# Altium schematic symbol library Regulator_Controller.SchLib: 154 symbols (part 1 of 2)
Pins are listed as number, name and electrical type; pins without a type are passive.

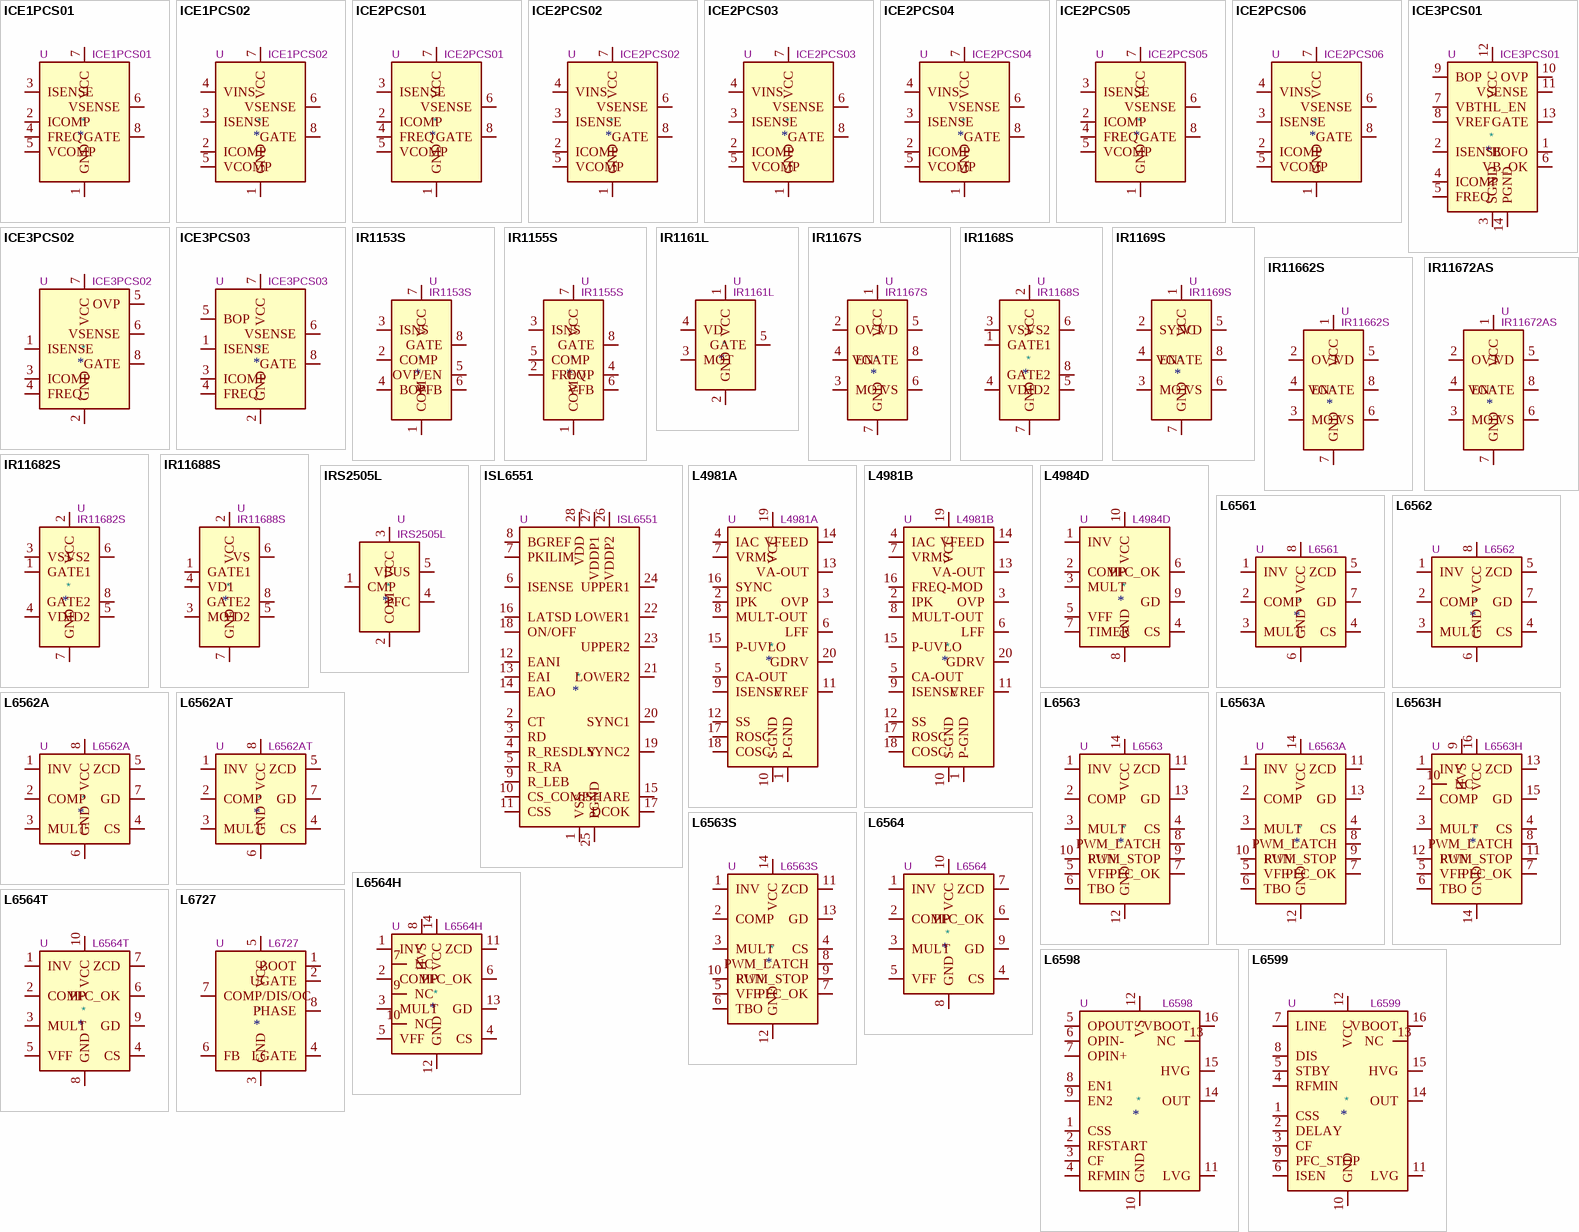
[diagram p0: symbols ICE1PCS01 to L6727]

## ICE1PCS01
designator *  value ICE1PCS01  Reference: U
Standalone PFC Controller in CCM, DIP-8/SOIC-8; ki_keywords: SMPS pfc controller; ki_fp_filters: SOIC*3.9x4.9mm*P1.27mm* DIP*W7.62mm*; Datasheet: https://www.infineon.com/dgdl/Infineon-ICE1PCS01-DS-v01_03-en.pdf?fileId=db3a304412b407950112b427c6f13cc7; Description_: Standalone PFC Controller in CCM, DIP-8/SOIC-8
pins: 1 GND, 2 ICOMP, 3 ISENSE, 4 FREQ, 5 VCOMP, 6 VSENSE, 7 VCC, 8 GATE

## ICE1PCS02
designator *  value ICE1PCS02  Reference: U
Standalone PFC Controller in CCM With Input Brown-Out Protection, 65kHz, DIP-8/SOIC-8; ki_keywords: SMPS pfc controller; ki_fp_filters: SOIC*3.9x4.9mm*P1.27mm* DIP*W7.62mm*; Datasheet: https://www.infineon.com/dgdl/Infineon-ICE1PCS02-DS-v01_02-en.pdf?fileId=db3a304412b407950112b427c9283ccb; Description_: Standalone PFC Controller in CCM With Input Brown-Out Protection, 65kHz, DIP-8/SOIC-8
pins: 1 GND, 2 ICOMP, 3 ISENSE, 4 VINS, 5 VCOMP, 6 VSENSE, 7 VCC, 8 GATE

## ICE2PCS01
designator *  value ICE2PCS01  Reference: U
Standalone PFC Controller in CCM, DIP-8/SOIC-8; ki_keywords: SMPS pfc controller; ki_fp_filters: SOIC*3.9x4.9mm*P1.27mm* DIP*W7.62mm*; Datasheet: https://www.infineon.com/dgdl/Infineon-ICE2PCS01-DS-v02_03-en.pdf?fileId=db3a304412b407950112b427caa43ccf; Description_: Standalone PFC Controller in CCM, DIP-8/SOIC-8
pins: 1 GND, 2 ICOMP, 3 ISENSE, 4 FREQ, 5 VCOMP, 6 VSENSE, 7 VCC, 8 GATE

## ICE2PCS02
designator *  value ICE2PCS02  Reference: U
Standalone PFC Controller in CCM With Input Brown-Out Protection, 65kHz, DIP-8/SOIC-8; ki_keywords: SMPS pfc controller; ki_fp_filters: SOIC*3.9x4.9mm*P1.27mm* DIP*W7.62mm*; Datasheet: https://www.infineon.com/dgdl/Infineon-ICE2PCS02-DS-v02_04-en.pdf?fileId=db3a304412b407950112b427cc3c3cdc; Description_: Standalone PFC Controller in CCM With Input Brown-Out Protection, 65kHz, DIP-8/SOIC-8
pins: 1 GND, 2 ICOMP, 3 ISENSE, 4 VINS, 5 VCOMP, 6 VSENSE, 7 VCC, 8 GATE

## ICE2PCS03
designator *  value ICE2PCS03  Reference: U
Standalone PFC Controller in CCM With Input Brown-Out Protection, 100kHz, DIP-8/SOIC-8; ki_keywords: SMPS pfc controller; ki_fp_filters: SOIC*3.9x4.9mm*P1.27mm* DIP*W7.62mm*; Datasheet: https://www.infineon.com/dgdl/Infineon-ICE2PCS03-DS-v02_01-en.pdf?fileId=db3a30431936bc4b01193b45457e52a1; Description_: Standalone PFC Controller in CCM With Input Brown-Out Protection, 100kHz, DIP-8/SOIC-8
pins: 1 GND, 2 ICOMP, 3 ISENSE, 4 VINS, 5 VCOMP, 6 VSENSE, 7 VCC, 8 GATE

## ICE2PCS04
designator *  value ICE2PCS04  Reference: U
Standalone PFC Controller in CCM With Input Brown-Out Protection, 133kHz, DIP-8/SOIC-8; ki_keywords: SMPS pfc controller; ki_fp_filters: SOIC*3.9x4.9mm*P1.27mm* DIP*W7.62mm*; Datasheet: https://www.infineon.com/dgdl/Infineon-ICE2PCS04-DS-v02_01-en.pdf?fileId=db3a30431936bc4b01193b4e467952a9; Description_: Standalone PFC Controller in CCM With Input Brown-Out Protection, 133kHz, DIP-8/SOIC-8
pins: 1 GND, 2 ICOMP, 3 ISENSE, 4 VINS, 5 VCOMP, 6 VSENSE, 7 VCC, 8 GATE

## ICE2PCS05
designator *  value ICE2PCS05  Reference: U
Standalone PFC Controller in CCM, DIP-8/SOIC-8; ki_keywords: SMPS pfc controller; ki_fp_filters: SOIC*3.9x4.9mm*P1.27mm* DIP*W7.62mm*; Datasheet: https://www.infineon.com/dgdl/Infineon-ICE2PCS05-DS-v01_02-en.pdf?fileId=db3a30431c69a49d011cdfb46a834373; Description_: Standalone PFC Controller in CCM, DIP-8/SOIC-8
pins: 1 GND, 2 ICOMP, 3 ISENSE, 4 FREQ, 5 VCOMP, 6 VSENSE, 7 VCC, 8 GATE

## ICE2PCS06
designator *  value ICE2PCS06  Reference: U
Standalone PFC Controller in CCM With Input Brown-Out Protection, 65kHz, DIP-8/SOIC-8; ki_keywords: SMPS pfc controller; ki_fp_filters: SOIC*3.9x4.9mm*P1.27mm* DIP*W7.62mm*; Datasheet: https://www.infineon.com/dgdl/Infineon-ICE2PCS06-DS-v01_01-en.pdf?fileId=db3a3043327f13e3013285ff4ecb2e77; Description_: Standalone PFC Controller in CCM With Input Brown-Out Protection, 65kHz, DIP-8/SOIC-8
pins: 1 GND, 2 ICOMP, 3 ISENSE, 4 VINS, 5 VCOMP, 6 VSENSE, 7 VCC, 8 GATE

## ICE3PCS01
designator *  value ICE3PCS01  Reference: U
Standalone PFC Controller in CCM, SOIC-14; ki_keywords: SMPS pfc controller; ki_fp_filters: SOIC*3.9x8.7mm*P1.27mm*; Footprint: Package_SO:SOIC-14_3.9x8.7mm_P1.27mm; Datasheet: https://www.infineon.com/dgdl/Infineon-ICE3PCS01-DS-v03_00-EN.pdf?fileId=db3a304329a0f6ee0129a67ae8c02b46; Description_: Standalone PFC Controller in CCM, SOIC-14
pins: 1 BOFO, 2 ISENSE, 3 SGND, 4 ICOMP, 5 FREQ, 6 VB_OK, 7 VBTHL_EN, 8 VREF, 9 BOP, 10 OVP, 11 VSENSE, 12 VCC, 13 GATE, 14 PGND

## ICE3PCS02
designator *  value ICE3PCS02  Reference: U
Standalone PFC Controller in CCM, SOIC-8; ki_keywords: SMPS pfc controller; ki_fp_filters: SOIC*3.9x4.9mm*P1.27mm*; Footprint: Package_SO:SOIC-8_3.9x4.9mm_P1.27mm; Datasheet: https://www.infineon.com/dgdl/Infineon-ICE3PCS02G-DS-v03_00-EN.pdf?fileId=db3a304329a0f6ee0129a67fab472b4b; Description_: Standalone PFC Controller in CCM, SOIC-8
pins: 1 ISENSE, 2 GND, 3 ICOMP, 4 FREQ, 5 OVP, 6 VSENSE, 7 VCC, 8 GATE

## ICE3PCS03
designator *  value ICE3PCS03  Reference: U
Standalone PFC Controller in CCM, SOIC-8; ki_keywords: SMPS pfc controller; ki_fp_filters: SOIC*3.9x4.9mm*P1.27mm*; Footprint: Package_SO:SOIC-8_3.9x4.9mm_P1.27mm; Datasheet: https://www.infineon.com/dgdl/Infineon-ICE3PCS03G-DS-v03_00-EN.pdf?fileId=db3a304329a0f6ee0129a683c9c92b50; Description_: Standalone PFC Controller in CCM, SOIC-8
pins: 1 ISENSE, 2 GND, 3 ICOMP, 4 FREQ, 5 BOP, 6 VSENSE, 7 VCC, 8 GATE

## IR1153S
designator *  value IR1153S  Reference: U
Fixed 22.2kHz Frequency, uPFC One Cycle Control IC With Brown-Out Protection, Continuous Conduction Mode, SOIC-8; ki_keywords: pfc controller ccm; ki_fp_filters: SOIC*3.9x4.9mm*P1.27mm*; Footprint: Package_SO:SOIC-8_3.9x4.9mm_P1.27mm; Datasheet: https://www.infineon.com/dgdl/ir1153.pdf?fileId=5546d462533600a4015355c42a5b1649; Description_: Fixed 22.2kHz Frequency, uPFC One Cycle Control IC With Brown-Out Protection, Continuous Conduction Mode, SOIC-8
pins: 1 COM, 2 COMP, 3 ISNS, 4 BOP, 5 OVP/EN, 6 VFB, 7 VCC, 8 GATE

## IR1155S
designator *  value IR1155S  Reference: U
Programmable Frequency, One Cycle Control PFC IC, Continuous Conduction Mode, SOIC-8; ki_keywords: pfc controller ccm; ki_fp_filters: SOIC*3.9x4.9mm*P1.27mm*; Footprint: Package_SO:SOIC-8_3.9x4.9mm_P1.27mm; Datasheet: https://www.infineon.com/dgdl/ir1155spbf.pdf?fileId=5546d462533600a4015355c431f9164b; Description_: Programmable Frequency, One Cycle Control PFC IC, Continuous Conduction Mode, SOIC-8
pins: 1 COM, 2 FREQ, 3 ISNS, 4 OVP, 5 COMP, 6 VFB, 7 VCC, 8 GATE

## IR1161L
designator *  value IR1161L  Reference: U
SmartRectifier Control IC, 500kHz, 200V, 1.0/2.5A, SOT-23-5; ki_keywords: synchronous rectifier controller; ki_fp_filters: SOT?23*; Footprint: Package_TO_SOT_SMD:SOT-23-5; Datasheet: https://www.infineon.com/dgdl/ir1161lpbf.pdf?fileId=5546d462533600a4015355c439a5164d; Description_: SmartRectifier Control IC, 500kHz, 200V, 1.0/2.5A, SOT-23-5
pins: 1 VCC, 2 GND, 3 MOT, 4 VD, 5 GATE

## IR1167S
designator *  value IR1167S  Reference: U
SmartRectifier Control IC, 500kHz, 200V, 2.0/7.0A, SOIC-8; ki_keywords: synchronous rectifier controller; ki_fp_filters: SOIC*3.9x4.9mm*P1.27mm*; Footprint: Package_SO:SOIC-8_3.9x4.9mm_P1.27mm; Datasheet: https://www.infineon.com/dgdl/ir1167aspbf.pdf?fileId=5546d462533600a4015355c45d9c1655; Description_: SmartRectifier Control IC, 500kHz, 200V, 2.0/7.0A, SOIC-8
pins: 1 VCC, 2 OVT, 3 MOT, 4 EN, 5 VD, 6 VS, 7 GND, 8 VGATE

## IR1168S
designator *  value IR1168S  Reference: U
Dual Smart Rectifier Driver IC, 500kHz, 200V, 1.0/4.0A, SOIC-8; ki_keywords: dual synchronous rectifier controller; ki_fp_filters: SOIC*3.9x4.9mm*P1.27mm*; Footprint: Package_SO:SOIC-8_3.9x4.9mm_P1.27mm; Datasheet: https://www.infineon.com/dgdl/ir1168.pdf?fileId=5546d462533600a4015355c467fa1658; Description_: Dual Smart Rectifier Driver IC, 500kHz, 200V, 1.0/4.0A, SOIC-8
pins: 1 GATE1, 2 VCC, 3 VS1, 4 VD1, 5 VD2, 6 VS2, 7 GND, 8 GATE2

## IR1169S
designator *  value IR1169S  Reference: U
Advanced SmartRectifier Control IC, 500kHz, 200V, 1.0/4.0A, SOIC-8; ki_keywords: synchronous rectifier controller; ki_fp_filters: SOIC*3.9x4.9mm*P1.27mm*; Footprint: Package_SO:SOIC-8_3.9x4.9mm_P1.27mm; Datasheet: https://www.infineon.com/dgdl/ir1169.pdf?fileId=5546d462533600a4015355c485c4165e; Description_: Advanced SmartRectifier Control IC, 500kHz, 200V, 1.0/4.0A, SOIC-8
pins: 1 VCC, 2 SYNC, 3 MOT, 4 EN, 5 VD, 6 VS, 7 GND, 8 VGATE

## IR11662S
designator *  value IR11662S  Reference: U
Advanced SmartRectifier Control IC, 500kHz, 200V, 1.0/4.0A, SOIC-8; ki_keywords: synchronous rectifier controller; ki_fp_filters: SOIC*3.9x4.9mm*P1.27mm*; Footprint: Package_SO:SOIC-8_3.9x4.9mm_P1.27mm; Datasheet: https://www.infineon.com/dgdl/ir11662spbf.pdf?fileId=5546d462533600a4015355c44195164f; Description_: Advanced SmartRectifier Control IC, 500kHz, 200V, 1.0/4.0A, SOIC-8
pins: 1 VCC, 2 OVT, 3 MOT, 4 EN, 5 VD, 6 VS, 7 GND, 8 VGATE

## IR11672AS
designator *  value IR11672AS  Reference: U
Advanced SmartRectifier Control IC, 500kHz, 200V, 2.0/7.0A, SOIC-8; ki_keywords: synchronous rectifier controller; ki_fp_filters: SOIC*3.9x4.9mm*P1.27mm*; Footprint: Package_SO:SOIC-8_3.9x4.9mm_P1.27mm; Datasheet: https://www.infineon.com/dgdl/ir11672aspbf.pdf?fileId=5546d462533600a4015355c455561653; Description_: Advanced SmartRectifier Control IC, 500kHz, 200V, 2.0/7.0A, SOIC-8
pins: 1 VCC, 2 OVT, 3 MOT, 4 EN, 5 VD, 6 VS, 7 GND, 8 VGATE

## IR11682S
designator *  value IR11682S  Reference: U
Dual SmartRectifier Driver IC, 400kHz, 200V, 1.0/4.0A, SOIC-8; ki_keywords: dual synchronous rectifier controller; ki_fp_filters: SOIC*3.9x4.9mm*P1.27mm*; Footprint: Package_SO:SOIC-8_3.9x4.9mm_P1.27mm; Datasheet: https://www.infineon.com/dgdl/ir11682spbf.pdf?fileId=5546d462533600a4015355c47188165a; Description_: Dual SmartRectifier Driver IC, 400kHz, 200V, 1.0/4.0A, SOIC-8
pins: 1 GATE1, 2 VCC, 3 VS1, 4 VD1, 5 VD2, 6 VS2, 7 GND, 8 GATE2

## IR11688S
designator *  value IR11688S  Reference: U
Dual Synchronous Rectification Control IC, 400kHz, 200V, 1.0/4.0A, SOIC-8; ki_keywords: dual synchronous rectifier controller; ki_fp_filters: SOIC*3.9x4.9mm*P1.27mm*; Footprint: Package_SO:SOIC-8_3.9x4.9mm_P1.27mm; Datasheet: https://www.infineon.com/dgdl/ir11688spbf.pdf?fileId=5546d462533600a4015355c47c70165c; Description_: Dual Synchronous Rectification Control IC, 400kHz, 200V, 1.0/4.0A, SOIC-8
pins: 1 GATE1, 2 VCC, 3 MOT, 4 VD1, 5 VD2, 6 VS, 7 GND, 8 GATE2

## IRS2505L
designator *  value IRS2505L  Reference: U
Boost PFC and SMPS Control IC, Critical Conduction Mode, SOT-23-5; ki_keywords: pfc controller crcm dcm; ki_fp_filters: SOT?23*; Footprint: Package_TO_SOT_SMD:SOT-23-5; Datasheet: https://www.infineon.com/dgdl/irs2505lpbf.pdf?fileId=5546d462533600a40153567ad42c2819; Description_: Boost PFC and SMPS Control IC, Critical Conduction Mode, SOT-23-5
pins: 1 CMP, 2 COM, 3 VCC, 4 PFC, 5 VBUS

## ISL6551
designator *  value ISL6551  Reference: U
ZVS Full Bridge PWM Controller, SOIC-28; ki_keywords: SMPS controller; ki_fp_filters: SOIC*7.5x17.9mm*P1.27mm*; Footprint: Package_SO:SOIC-28W_7.5x17.9mm_P1.27mm; Datasheet: https://www.intersil.com/content/dam/Intersil/documents/isl6/isl6551.pdf; Description_: ZVS Full Bridge PWM Controller, SOIC-28
pins: 1 VSS, 2 CT, 3 RD, 4 R_RESDLY, 5 R_RA, 6 ISENSE, 7 PKILIM, 8 BGREF, 9 R_LEB, 10 CS_COMP, 11 CSS, 12 EANI, 13 EAI, 14 EAO, 15 SHARE, 16 LATSD, 17 DCOK, 18 ON/OFF, 19 SYNC2, 20 SYNC1, 21 LOWER2, 22 LOWER1, 23 UPPER2, 24 UPPER1, 25 PGND, 26 VDDP2, 27 VDDP1, 28 VDD

## L4981A
designator *  value L4981A  Reference: U
Power Factor Corrector, Fixed Frequency Average Current Mode, DIP-20/SOIC-20; ki_keywords: SMPS pfc controller; ki_fp_filters: SOIC*7.5x12.8mm*P1.27mm* DIP*W7.62mm*; Datasheet: http://www.st.com/resource/en/datasheet/l4981.pdf; Description_: Power Factor Corrector, Fixed Frequency Average Current Mode, DIP-20/SOIC-20
pins: 1 P-GND, 2 IPK, 3 OVP, 4 IAC, 5 CA-OUT, 6 LFF, 7 VRMS, 8 MULT-OUT, 9 ISENSE, 10 S-GND, 11 VREF, 12 SS, 13 VA-OUT, 14 VFEED, 15 P-UVLO, 16 SYNC, 17 ROSC, 18 COSC, 19 VCC, 20 GDRV

## L4981B
designator *  value L4981B  Reference: U
Power Factor Corrector, Line Modulated Frequency Average Current Mode, DIP-20/SOIC-20; ki_keywords: SMPS pfc controller; ki_fp_filters: SOIC*7.5x12.8mm*P1.27mm* DIP*W7.62mm*; Datasheet: http://www.st.com/resource/en/datasheet/l4981.pdf; Description_: Power Factor Corrector, Line Modulated Frequency Average Current Mode, DIP-20/SOIC-20
pins: 1 P-GND, 2 IPK, 3 OVP, 4 IAC, 5 CA-OUT, 6 LFF, 7 VRMS, 8 MULT-OUT, 9 ISENSE, 10 S-GND, 11 VREF, 12 SS, 13 VA-OUT, 14 VFEED, 15 P-UVLO, 16 FREQ-MOD, 17 ROSC, 18 COSC, 19 VCC, 20 GDRV

## L4984D
designator *  value L4984D  Reference: U
CCM PFC Controller, SSOP-10; ki_keywords: SMPS pfc controller; ki_fp_filters: SSOP*3.9x4.9mm*P1.00mm*; Footprint: Package_SO:SSOP-10_3.9x4.9mm_P1.00mm; Datasheet: http://www.st.com/resource/en/datasheet/l4984d.pdf; Description_: CCM PFC Controller, SSOP-10
pins: 1 INV, 2 COMP, 3 MULT, 4 CS, 5 VFF, 6 PFC_OK, 7 TIMER, 8 GND, 9 GD, 10 VCC

## L6561
designator *  value L6561  Reference: U
Transition Mode Power Factor Corrector, DIP-8/SOIC-8; ki_keywords: SMPS pfc controller; ki_fp_filters: SOIC*3.9x4.9mm*P1.27mm* DIP*W7.62mm*; Datasheet: http://www.st.com/resource/en/datasheet/l6561.pdf; Description_: Transition Mode Power Factor Corrector, DIP-8/SOIC-8
pins: 1 INV, 2 COMP, 3 MULT, 4 CS, 5 ZCD, 6 GND, 7 GD, 8 VCC

## L6562
designator *  value L6562  Reference: U
Transition-Mode PFC Controller, DIP-8/SOIC-8; ki_keywords: SMPS pfc controller; ki_fp_filters: SOIC*3.9x4.9mm*P1.27mm* DIP*W7.62mm*; Datasheet: http://www.st.com/resource/en/datasheet/l6562.pdf; Description_: Transition-Mode PFC Controller, DIP-8/SOIC-8
pins: 1 INV, 2 COMP, 3 MULT, 4 CS, 5 ZCD, 6 GND, 7 GD, 8 VCC

## L6562A
designator *  value L6562A  Reference: U
Transition-Mode PFC Controller, DIP-8/SOIC-8; ki_keywords: SMPS pfc controller; ki_fp_filters: SOIC*3.9x4.9mm*P1.27mm* DIP*W7.62mm*; Datasheet: http://www.st.com/resource/en/datasheet/l6562a.pdf; Description_: Transition-Mode PFC Controller, DIP-8/SOIC-8
pins: 1 INV, 2 COMP, 3 MULT, 4 CS, 5 ZCD, 6 GND, 7 GD, 8 VCC

## L6562AT
designator *  value L6562AT  Reference: U
Transition-Mode PFC Controller, DIP-8/SOIC-8; ki_keywords: SMPS pfc controller; ki_fp_filters: SOIC*3.9x4.9mm*P1.27mm* DIP*W7.62mm*; Datasheet: http://www.st.com/resource/en/datasheet/l6562at.pdf; Description_: Transition-Mode PFC Controller, DIP-8/SOIC-8
pins: 1 INV, 2 COMP, 3 MULT, 4 CS, 5 ZCD, 6 GND, 7 GD, 8 VCC

## L6563
designator *  value L6563  Reference: U
Advanced Transition-Mode PFC Controller, SOIC-14; ki_keywords: SMPS pfc controller; ki_fp_filters: SOIC*3.9x8.7mm*P1.27mm*; Footprint: Package_SO:SOIC-14_3.9x8.7mm_P1.27mm; Datasheet: http://www.st.com/resource/en/datasheet/l6563.pdf; Description_: Advanced Transition-Mode PFC Controller, SOIC-14
pins: 1 INV, 2 COMP, 3 MULT, 4 CS, 5 VFF, 6 TBO, 7 PFC_OK, 8 PWM_LATCH, 9 PWM_STOP, 10 RUN, 11 ZCD, 12 GND, 13 GD, 14 VCC

## L6563A
designator *  value L6563A  Reference: U
Advanced Transition-Mode PFC Controller, SOIC-14; ki_keywords: SMPS pfc controller; ki_fp_filters: SOIC*3.9x8.7mm*P1.27mm*; Footprint: Package_SO:SOIC-14_3.9x8.7mm_P1.27mm; Datasheet: http://www.st.com/resource/en/datasheet/l6563.pdf; Description_: Advanced Transition-Mode PFC Controller, SOIC-14
pins: 1 INV, 2 COMP, 3 MULT, 4 CS, 5 VFF, 6 TBO, 7 PFC_OK, 8 PWM_LATCH, 9 PWM_STOP, 10 RUN, 11 ZCD, 12 GND, 13 GD, 14 VCC

## L6563H
designator *  value L6563H  Reference: U
High Voltage Start-Up Transition-Mode PFC, SOIC-16; ki_keywords: SMPS pfc controller; ki_fp_filters: SOIC*3.9x9.9mm*P1.27mm*; Footprint: Package_SO:SOIC-16_3.9x9.9mm_P1.27mm; Datasheet: http://www.st.com/resource/en/datasheet/l6563h.pdf; Description_: High Voltage Start-Up Transition-Mode PFC, SOIC-16
pins: 1 INV, 2 COMP, 3 MULT, 4 CS, 5 VFF, 6 TBO, 7 PFC_OK, 8 PWM_LATCH, 9 HVS, 10 NC, 11 PWM_STOP, 12 RUN, 13 ZCD, 14 GND, 15 GD, 16 VCC

## L6563S
designator *  value L6563S  Reference: U
Enhanced Transition-Mode PFC Controller, SOIC-14; ki_keywords: SMPS pfc controller; ki_fp_filters: SOIC*3.9x8.7mm*P1.27mm*; Footprint: Package_SO:SOIC-14_3.9x8.7mm_P1.27mm; Datasheet: http://www.st.com/resource/en/datasheet/l6563s.pdf; Description_: Enhanced Transition-Mode PFC Controller, SOIC-14
pins: 1 INV, 2 COMP, 3 MULT, 4 CS, 5 VFF, 6 TBO, 7 PFC_OK, 8 PWM_LATCH, 9 PWM_STOP, 10 RUN, 11 ZCD, 12 GND, 13 GD, 14 VCC

## L6564
designator *  value L6564  Reference: U
10-Pin Transition-Mode PFC Controller, SSOP-10; ki_keywords: SMPS pfc controller; ki_fp_filters: SSOP*3.9x4.9mm*P1.00mm*; Footprint: Package_SO:SSOP-10_3.9x4.9mm_P1.00mm; Datasheet: http://www.st.com/resource/en/datasheet/l6564.pdf; Description_: 10-Pin Transition-Mode PFC Controller, SSOP-10
pins: 1 INV, 2 COMP, 3 MULT, 4 CS, 5 VFF, 6 PFC_OK, 7 ZCD, 8 GND, 9 GD, 10 VCC

## L6564H
designator *  value L6564H  Reference: U
High Voltage Start-Up Transition-Mode PFC, SOIC-14; ki_keywords: SMPS pfc controller; ki_fp_filters: SOIC*3.9x8.7mm*P1.27mm*; Footprint: Package_SO:SOIC-14_3.9x8.7mm_P1.27mm; Datasheet: http://www.st.com/resource/en/datasheet/l6564h.pdf; Description_: High Voltage Start-Up Transition-Mode PFC, SOIC-14
pins: 1 INV, 2 COMP, 3 MULT, 4 CS, 5 VFF, 6 PFC_OK, 7 NC, 8 HVS, 9 NC, 10 NC, 11 ZCD, 12 GND, 13 GD, 14 VCC

## L6564T
designator *  value L6564T  Reference: U
10-Pin Transition-Mode PFC Controller for Outdoor Applications, SSOP-10; ki_keywords: SMPS pfc controller; ki_fp_filters: SSOP*3.9x4.9mm*P1.00mm*; Footprint: Package_SO:SSOP-10_3.9x4.9mm_P1.00mm; Datasheet: http://www.st.com/resource/en/datasheet/l6564t.pdf; Description_: 10-Pin Transition-Mode PFC Controller for Outdoor Applications, SSOP-10
pins: 1 INV, 2 COMP, 3 MULT, 4 CS, 5 VFF, 6 PFC_OK, 7 ZCD, 8 GND, 9 GD, 10 VCC

## L6598
designator *  value L6598  Reference: U
High Voltage Resonant Controller, DIP-16/SOIC-16; ki_keywords: SMPS controller; ki_fp_filters: SOIC*3.9x9.9mm*P1.27mm* DIP*W7.62mm*; Datasheet: www.st.com/resource/en/datasheet/l6598.pdf; Description_: High Voltage Resonant Controller, DIP-16/SOIC-16
pins: 1 CSS, 2 RFSTART, 3 CF, 4 RFMIN, 5 OPOUT, 6 OPIN-, 7 OPIN+, 8 EN1, 9 EN2, 10 GND, 11 LVG, 12 VS, 13 NC, 14 OUT, 15 HVG, 16 VBOOT

## L6599
designator *  value L6599  Reference: U
High Voltage Resonant Controller, DIP-16/SOIC-16; ki_keywords: SMPS controller; ki_fp_filters: SOIC*3.9x9.9mm*P1.27mm* DIP*W7.62mm*; Datasheet: www.st.com/resource/en/datasheet/l6599.pdf; Description_: High Voltage Resonant Controller, DIP-16/SOIC-16
pins: 1 CSS, 2 DELAY, 3 CF, 4 RFMIN, 5 STBY, 6 ISEN, 7 LINE, 8 DIS, 9 PFC_STOP, 10 GND, 11 LVG, 12 VCC, 13 NC, 14 OUT, 15 HVG, 16 VBOOT

## L6727
designator *  value L6727  Reference: U
Single Phase PWM Controller, SOIC-8; ki_keywords: SMPS controller; ki_fp_filters: SOIC*3.9x4.9mm*P1.27mm*; Footprint: Package_SO:SOIC-8_3.9x4.9mm_P1.27mm; Datasheet: http://www.st.com/resource/en/datasheet/l6727.pdf; Description_: Single Phase PWM Controller, SOIC-8
pins: 1 BOOT, 2 UGATE, 3 GND, 4 LGATE, 5 VCC, 6 FB, 7 COMP/DIS/OC, 8 PHASE

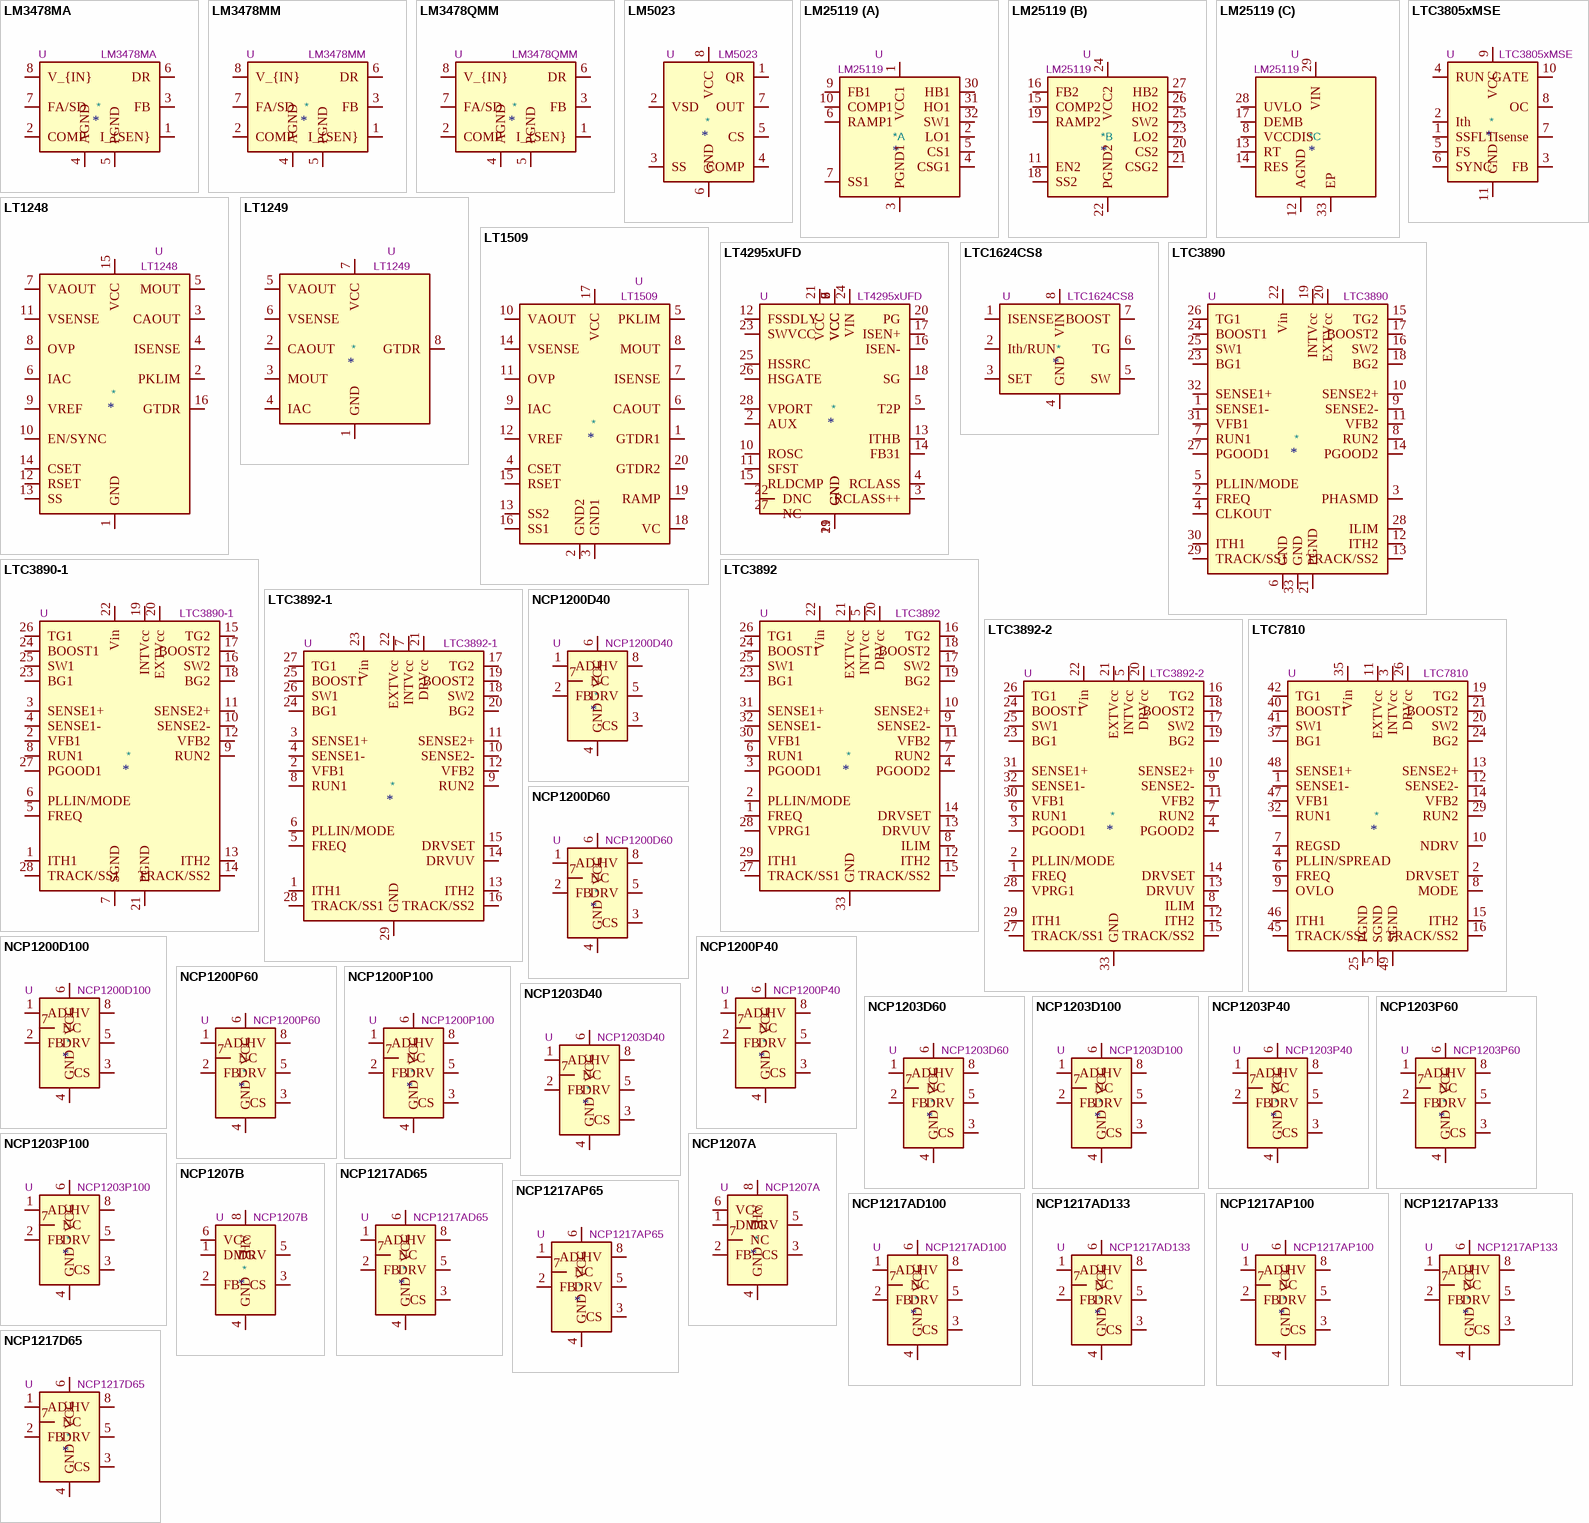
[diagram p1: symbols LM3478MA to NCP1217D65]

## LM3478MA
designator *  value LM3478MA  Reference: U
2.97~40V Wide Input Range Boost/SEPIC/Flyback DC-DC Controller, SOIC-8; ki_keywords: Boost flyback SEPIC DC-DC controller; ki_fp_filters: SOIC-8*3.9x4.9mm_P1.27mm*; Footprint: Package_SO:SOIC-8_3.9x4.9mm_P1.27mm; Datasheet: https://www.ti.com/lit/gpn/lm3478; Description_: 2.97~40V Wide Input Range Boost/SEPIC/Flyback DC-DC Controller, SOIC-8
pins: 1 I_{SEN}, 2 COMP, 3 FB, 4 AGND, 5 PGND, 6 DR, 7 FA/SD, 8 V_{IN}

## LM3478MM
designator *  value LM3478MM  Reference: U
2.97~40V Wide Input Range Boost/SEPIC/Flyback DC-DC Controller, VSSOP-8; ki_keywords: Boost flyback SEPIC DC-DC controller; ki_fp_filters: VSSOP*3x3mm*P0.65mm*; Footprint: Package_SO:VSSOP-8_3x3mm_P0.65mm; Datasheet: https://www.ti.com/lit/gpn/lm3478; Description_: 2.97~40V Wide Input Range Boost/SEPIC/Flyback DC-DC Controller, VSSOP-8
pins: 1 I_{SEN}, 2 COMP, 3 FB, 4 AGND, 5 PGND, 6 DR, 7 FA/SD, 8 V_{IN}

## LM3478QMM
designator *  value LM3478QMM  Reference: U
2.97~40V Wide Input Range Boost/SEPIC/Flyback DC-DC Controller, AEC-Q100 Qualified, VSSOP-8; ki_keywords: Boost flyback SEPIC DC-DC controller Automotive; ki_fp_filters: VSSOP*3x3mm*P0.65mm*; Footprint: Package_SO:VSSOP-8_3x3mm_P0.65mm; Datasheet: https://www.ti.com/lit/gpn/lm3478q-q1; Description_: 2.97~40V Wide Input Range Boost/SEPIC/Flyback DC-DC Controller, AEC-Q100 Qualified, VSSOP-8
pins: 1 I_{SEN}, 2 COMP, 3 FB, 4 AGND, 5 PGND, 6 DR, 7 FA/SD, 8 V_{IN}

## LM5023
designator *  value LM5023  Reference: U
Quasi-Resonant Current-Mode PWM Controller for Off-Line Supplies, OVP/OTP, Latched OVP, VSSOP-8; ki_keywords: smps pwm controller ac-dc ac dc offline off-line quasi resonant quasi-resonant flyback; ki_fp_filters: VSSOP*3x3mm*P0.65mm*; Footprint: Package_SO:VSSOP-8_3x3mm_P0.65mm; Datasheet: https://www.ti.com/lit/ds/symlink/lm5023.pdf; Description_: Quasi-Resonant Current-Mode PWM Controller for Off-Line Supplies, OVP/OTP, Latched OVP, VSSOP-8
pins: 1 QR, 2 VSD, 3 SS, 4 COMP, 5 CS, 6 GND, 7 OUT, 8 VCC

## LM25119
designator *  value LM25119  Reference: U
Wide Input Range, Dual Synchronous Buck Controller, WQFN-32; ki_fp_filters: WQFN*5x5mm*P0.5mm*; Footprint: Package_DFN_QFN:WQFN-32-1EP_5x5mm_P0.5mm_EP3.1x3.1mm; Datasheet: http://www.ti.com/lit/ds/symlink/lm25119.pdf; Description_: Wide Input Range, Dual Synchronous Buck Controller, WQFN-32; ki_keywords: Dual Synchronous Buck
part A pins: 1 VCC1, 2 LO1, 3 PGND1, 4 CSG1, 5 CS1, 6 RAMP1, 7 SS1, 9 FB1, 10 COMP1, 30 HB1, 31 HO1, 32 SW1
part B pins: 11 EN2, 15 COMP2, 16 FB2, 18 SS2, 19 RAMP2, 20 CS2, 21 CSG2, 22 PGND2, 23 LO2, 24 VCC2, 25 SW2, 26 HO2, 27 HB2
part C pins: 8 VCCDIS, 12 AGND, 13 RT, 14 RES, 17 DEMB, 28 UVLO, 29 VIN, 33 EP

## LT1248
designator *  value LT1248  Reference: U
Power Factor Controller, DIP-16/SOIC-16; ki_keywords: pfc controller; ki_fp_filters: SOIC*16*3.9x9.9mm*P1.27mm* DIP*16*W7.62mm*; Datasheet: https://www.analog.com/media/en/technical-documentation/data-sheets/1248fd.pdf; Description_: Power Factor Controller, DIP-16/SOIC-16
pins: 1 GND, 2 PKLIM, 3 CAOUT, 4 ISENSE, 5 MOUT, 6 IAC, 7 VAOUT, 8 OVP, 9 VREF, 10 EN/SYNC, 11 VSENSE, 12 RSET, 13 SS, 14 CSET, 15 VCC, 16 GTDR

## LT1249
designator *  value LT1249  Reference: U
Power Factor Controller, DIP-8/SOIC-8; ki_keywords: pfc controller; ki_fp_filters: SOIC*3.9x4.9mm*P1.27mm* DIP*W7.62mm*; Datasheet: https://www.analog.com/media/en/technical-documentation/data-sheets/1249fbs.pdf; Description_: Power Factor Controller, DIP-8/SOIC-8
pins: 1 GND, 2 CAOUT, 3 MOUT, 4 IAC, 5 VAOUT, 6 VSENSE, 7 VCC, 8 GTDR

## LT1509
designator *  value LT1509  Reference: U
Power Factor and PWM Controller, DIP-20/SOIC-20; ki_keywords: pfc pwm controller; ki_fp_filters: SOIC*7.5x12.8mm*P1.27mm* DIP*W7.62mm*; Datasheet: https://www.analog.com/media/en/technical-documentation/data-sheets/lt1509.pdf; Description_: Power Factor and PWM Controller, DIP-20/SOIC-20
pins: 1 GTDR1, 2 GND2, 3 GND1, 4 CSET, 5 PKLIM, 6 CAOUT, 7 ISENSE, 8 MOUT, 9 IAC, 10 VAOUT, 11 OVP, 12 VREF, 13 SS2, 14 VSENSE, 15 RSET, 16 SS1, 17 VCC, 18 VC, 19 RAMP, 20 GTDR2

## LT4295xUFD
designator *  value LT4295xUFD  Reference: U
IEEE 802.3bt PD Interface with Forward/Flyback Controller, QFN-28; ki_keywords: LTPoE++ IEEE 802.3af IEEE 802.3at IEEE 802.3bt; ki_fp_filters: QFN*1EP*4x5mm*P0.5mm*; Footprint: Package_DFN_QFN:QFN-28-1EP_4x5mm_P0.5mm_EP2.65x3.65mm; Datasheet: https://www.analog.com/media/en/technical-documentation/data-sheets/LT4295.pdf; Description_: IEEE 802.3bt PD Interface with Forward/Flyback Controller, QFN-28
pins: 1 GND, 2 AUX, 3 RCLASS++, 4 RCLASS, 5 T2P, 6 VCC, 7 VCC, 8 VCC, 9 VCC, 10 ROSC, 11 SFST, 12 FSSDLY, 13 ITHB, 14 FB31, 15 RLDCMP, 16 ISEN-, 17 ISEN+, 18 SG, 19 GND, 20 PG, 21 VCC, 22 DNC, 23 SWVCC, 24 VIN, 25 HSSRC, 26 HSGATE, 27 NC, 28 VPORT, 29 GND

## LTC1624CS8
designator *  value LTC1624CS8  Reference: U
High Efficiency N-Channel Switching Regulator Controller, SOIC-8; ki_fp_filters: SOIC*3.9x4.9mm*P1.27mm*; Footprint: Package_SO:SOIC-8_3.9x4.9mm_P1.27mm; Datasheet: https://www.analog.com/media/en/technical-documentation/data-sheets/1624f.pdf; Description_: High Efficiency N-Channel Switching Regulator Controller, SOIC-8; ki_keywords: Switching Regulator Controller
pins: 1 ISENSE, 2 Ith/RUN, 3 SET, 4 GND, 5 SW, 6 TG, 7 BOOST, 8 VIN

## LTC3805xMSE
designator *  value LTC3805xMSE  Reference: U
Adjustable Frequency current Mode Flyback DC/DC controller, MSOP-10; ki_keywords: flyback dc-dc switcher switching; ki_fp_filters: MSOP*10*3x3mm*P0.5mm*; Footprint: Package_SO:MSOP-10-1EP_3x3mm_P0.5mm_EP1.68x1.88mm; Datasheet: https://www.analog.com/media/en/technical-documentation/data-sheets/3805fg.pdf; Description_: Adjustable Frequency current Mode Flyback DC/DC controller, MSOP-10
pins: 1 SSFLT, 2 Ith, 3 FB, 4 RUN, 5 FS, 6 SYNC, 7 Isense, 8 OC, 9 VCC, 10 GATE, 11 GND

## LTC3890
designator *  value LTC3890  Reference: U
60V dual 2-phase synchronous step-down DC/DC controller, QFN-32; ki_keywords: switching buck converter regulator dual-output; ki_fp_filters: QFN*5x5mm*P0.5mm*; Footprint: Package_DFN_QFN:QFN-32-1EP_5x5mm_P0.5mm_EP3.45x3.45mm; Datasheet: https://www.analog.com/media/en/technical-documentation/data-sheets/3890fc.pdf; Description_: 60V dual 2-phase synchronous step-down DC/DC controller, QFN-32
pins: 1 SENSE1-, 2 FREQ, 3 PHASMD, 4 CLKOUT, 5 PLLIN/MODE, 6 GND, 7 RUN1, 8 RUN2, 9 SENSE2-, 10 SENSE2+, 11 VFB2, 12 ITH2, 13 TRACK/SS2, 14 PGOOD2, 15 TG2, 16 SW2, 17 BOOST2, 18 BG2, 19 INTVcc, 20 EXTVcc, 21 PGND, 22 Vin, 23 BG1, 24 BOOST1, 25 SW1, 26 TG1, 27 PGOOD1, 28 ILIM, 29 TRACK/SS1, 30 ITH1, 31 VFB1, 32 SENSE1+, 33 GND

## LTC3890-1
designator *  value LTC3890-1  Reference: U
60V dual 2-phase synchronous step-down DC/DC controller, SSOP-28; ki_keywords: switching buck converter regulator dual-output; ki_fp_filters: SSOP*3.9x9.9mm*P0.635mm*; Footprint: Package_SO:SSOP-28_3.9x9.9mm_P0.635mm; Datasheet: https://www.analog.com/media/en/technical-documentation/data-sheets/38901fb.pdf; Description_: 60V dual 2-phase synchronous step-down DC/DC controller, SSOP-28
pins: 1 ITH1, 2 VFB1, 3 SENSE1+, 4 SENSE1-, 5 FREQ, 6 PLLIN/MODE, 7 SGND, 8 RUN1, 9 RUN2, 10 SENSE2-, 11 SENSE2+, 12 VFB2, 13 ITH2, 14 TRACK/SS2, 15 TG2, 16 SW2, 17 BOOST2, 18 BG2, 19 INTVcc, 20 EXTVcc, 21 PGND, 22 Vin, 23 BG1, 24 BOOST1, 25 SW1, 26 TG1, 27 PGOOD1, 28 TRACK/SS1

## LTC3892
designator *  value LTC3892  Reference: U
60V dual 2-phase synchronous step-down DC/DC controller, continuous conduction, QFN-32; ki_keywords: switching buck converter regulator dual-output; ki_fp_filters: QFN*5x5mm*P0.5mm*; Footprint: Package_DFN_QFN:QFN-32-1EP_5x5mm_P0.5mm_EP3.45x3.45mm; Datasheet: https://www.analog.com/media/en/technical-documentation/data-sheets/38921fc.pdf; Description_: 60V dual 2-phase synchronous step-down DC/DC controller, continuous conduction, QFN-32
pins: 1 FREQ, 2 PLLIN/MODE, 3 PGOOD1, 4 PGOOD2, 5 INTVcc, 6 RUN1, 7 RUN2, 8 ILIM, 9 SENSE2-, 10 SENSE2+, 11 VFB2, 12 ITH2, 13 DRVUV, 14 DRVSET, 15 TRACK/SS2, 16 TG2, 17 SW2, 18 BOOST2, 19 BG2, 20 DRVcc, 21 EXTVcc, 22 Vin, 23 BG1, 24 BOOST1, 25 SW1, 26 TG1, 27 TRACK/SS1, 28 VPRG1, 29 ITH1, 30 VFB1, 31 SENSE1+, 32 SENSE1-, 33 GND

## LTC3892-1
designator *  value LTC3892-1  Reference: U
60V dual 2-phase synchronous step-down DC/DC controller, forced continuous conduction mode, TSSOP-28; ki_keywords: switching buck converter regulator dual-output; ki_fp_filters: TSSOP*1EP*4.4x9.7mm*P0.65mm*; Footprint: Package_SO:TSSOP-28-1EP_4.4x9.7mm_P0.65mm_EP3.05x7.56mm_ThermalVias; Datasheet: https://www.analog.com/media/en/technical-documentation/data-sheets/38921fc.pdf; Description_: 60V dual 2-phase synchronous step-down DC/DC controller, forced continuous conduction mode, TSSOP-28
pins: 1 ITH1, 2 VFB1, 3 SENSE1+, 4 SENSE1-, 5 FREQ, 6 PLLIN/MODE, 7 INTVcc, 8 RUN1, 9 RUN2, 10 SENSE2-, 11 SENSE2+, 12 VFB2, 13 ITH2, 14 DRVUV, 15 DRVSET, 16 TRACK/SS2, 17 TG2, 18 SW2, 19 BOOST2, 20 BG2, 21 DRVcc, 22 EXTVcc, 23 Vin, 24 BG1, 25 BOOST1, 26 SW1, 27 TG1, 28 TRACK/SS1, 29 GND

## LTC3892-2
designator *  value LTC3892-2  Reference: U
60V dual 2-phase synchronous step-down DC/DC controller, pulse-skipping, QFN-32; ki_keywords: switching buck converter regulator dual-output; ki_fp_filters: QFN*5x5mm*P0.5mm*; Footprint: Package_DFN_QFN:QFN-32-1EP_5x5mm_P0.5mm_EP3.45x3.45mm; Datasheet: https://www.analog.com/media/en/technical-documentation/data-sheets/38921fc.pdf; Description_: 60V dual 2-phase synchronous step-down DC/DC controller, pulse-skipping, QFN-32
pins: 1 FREQ, 2 PLLIN/MODE, 3 PGOOD1, 4 PGOOD2, 5 INTVcc, 6 RUN1, 7 RUN2, 8 ILIM, 9 SENSE2-, 10 SENSE2+, 11 VFB2, 12 ITH2, 13 DRVUV, 14 DRVSET, 15 TRACK/SS2, 16 TG2, 17 SW2, 18 BOOST2, 19 BG2, 20 DRVcc, 21 EXTVcc, 22 Vin, 23 BG1, 24 BOOST1, 25 SW1, 26 TG1, 27 TRACK/SS1, 28 VPRG1, 29 ITH1, 30 VFB1, 31 SENSE1+, 32 SENSE1-, 33 GND

## LTC7810
designator *  value LTC7810  Reference: U
150V dual 2-phase synchronous step-down DC/DC controller, LQPF-48; ki_keywords: switching buck converter regulator dual-output; ki_fp_filters: LQFP?48?1EP*7x7mm*P0.5mm*EP3.6x3.6mm*; Footprint: Package_QFP:LQFP-48-1EP_7x7mm_P0.5mm_EP3.6x3.6mm; Datasheet: https://www.analog.com/media/en/technical-documentation/data-sheets/LTC7810.pdf; Description_: 150V dual 2-phase synchronous step-down DC/DC controller, LQPF-48
pins: 1 SENSE1-, 2 DRVSET, 3 INTVcc, 4 PLLIN/SPREAD, 5 SGND, 6 FREQ, 7 REGSD, 8 MODE, 9 OVLO, 10 NDRV, 11 EXTVcc, 12 SENSE2-, 13 SENSE2+, 14 VFB2, 15 ITH2, 16 TRACK/SS2, 19 TG2, 20 SW2, 21 BOOST2, 24 BG2, 25 PGND, 26 DRVcc, 29 RUN2, 32 RUN1, 35 Vin, 37 BG1, 40 BOOST1, 41 SW1, 42 TG1, 45 TRACK/SS1, 46 ITH1, 47 VFB1, 48 SENSE1+, 49 SGND

## NCP1200D40
designator *  value NCP1200D40  Reference: U
PWM Current-Mode Controller for Off-Line Supplies, AC-DC, 40kHz, SOIC-8; ki_keywords: SMPS Controller AC-DC; ki_fp_filters: SOIC*3.9x4.9mm*P1.27mm*; Footprint: Package_SO:SOIC-8_3.9x4.9mm_P1.27mm; Datasheet: http://www.onsemi.com/pub_link/Collateral/NCP1200-D.PDF; Description_: PWM Current-Mode Controller for Off-Line Supplies, AC-DC, 40kHz, SOIC-8
pins: 1 ADJ, 2 FB, 3 CS, 4 GND, 5 DRV, 6 VCC, 7 NC, 8 HV

## NCP1200D60
designator *  value NCP1200D60  Reference: U
PWM Current-Mode Controller for Off-Line Supplies, AC-DC, 60kHz, SOIC-8; ki_keywords: SMPS Controller AC-DC; ki_fp_filters: SOIC*3.9x4.9mm*P1.27mm*; Footprint: Package_SO:SOIC-8_3.9x4.9mm_P1.27mm; Datasheet: http://www.onsemi.com/pub_link/Collateral/NCP1200-D.PDF; Description_: PWM Current-Mode Controller for Off-Line Supplies, AC-DC, 60kHz, SOIC-8
pins: 1 ADJ, 2 FB, 3 CS, 4 GND, 5 DRV, 6 VCC, 7 NC, 8 HV

## NCP1200D100
designator *  value NCP1200D100  Reference: U
PWM Current-Mode Controller for Off-Line Supplies, AC-DC, 100kHz, SOIC-8; ki_keywords: SMPS Controller AC-DC; ki_fp_filters: SOIC*3.9x4.9mm*P1.27mm*; Footprint: Package_SO:SOIC-8_3.9x4.9mm_P1.27mm; Datasheet: http://www.onsemi.com/pub_link/Collateral/NCP1200-D.PDF; Description_: PWM Current-Mode Controller for Off-Line Supplies, AC-DC, 100kHz, SOIC-8
pins: 1 ADJ, 2 FB, 3 CS, 4 GND, 5 DRV, 6 VCC, 7 NC, 8 HV

## NCP1200P40
designator *  value NCP1200P40  Reference: U
PWM Current-Mode Controller for Off-Line Supplies, AC-DC, 40kHz, PDIP-8; ki_keywords: SMPS Controller AC-DC; ki_fp_filters: DIP*W7.62mm*; Footprint: Package_DIP:DIP-8_W7.62mm; Datasheet: http://www.onsemi.com/pub_link/Collateral/NCP1200-D.PDF; Description_: PWM Current-Mode Controller for Off-Line Supplies, AC-DC, 40kHz, PDIP-8
pins: 1 ADJ, 2 FB, 3 CS, 4 GND, 5 DRV, 6 VCC, 7 NC, 8 HV

## NCP1200P60
designator *  value NCP1200P60  Reference: U
PWM Current-Mode Controller for Off-Line Supplies, AC-DC, 60kHz, PDIP-8; ki_keywords: SMPS Controller AC-DC; ki_fp_filters: DIP*W7.62mm*; Footprint: Package_DIP:DIP-8_W7.62mm; Datasheet: http://www.onsemi.com/pub_link/Collateral/NCP1200-D.PDF; Description_: PWM Current-Mode Controller for Off-Line Supplies, AC-DC, 60kHz, PDIP-8
pins: 1 ADJ, 2 FB, 3 CS, 4 GND, 5 DRV, 6 VCC, 7 NC, 8 HV

## NCP1200P100
designator *  value NCP1200P100  Reference: U
PWM Current-Mode Controller for Off-Line Supplies, AC-DC, 100kHz, PDIP-8; ki_keywords: SMPS Controller AC-DC; ki_fp_filters: DIP*W7.62mm*; Footprint: Package_DIP:DIP-8_W7.62mm; Datasheet: http://www.onsemi.com/pub_link/Collateral/NCP1200-D.PDF; Description_: PWM Current-Mode Controller for Off-Line Supplies, AC-DC, 100kHz, PDIP-8
pins: 1 ADJ, 2 FB, 3 CS, 4 GND, 5 DRV, 6 VCC, 7 NC, 8 HV

## NCP1203D40
designator *  value NCP1203D40  Reference: U
PWM Current-Mode Controller for Universal Off-Line Supplies Featuring Standby and Short Circuit Protection, AC-DC, 40kHz, SOIC-8; ki_keywords: SMPS Controller AC-DC; ki_fp_filters: SOIC*3.9x4.9mm*P1.27mm*; Footprint: Package_SO:SOIC-8_3.9x4.9mm_P1.27mm; Datasheet: http://www.onsemi.com/pub_link/Collateral/NCP1203-D.PDF; Description_: PWM Current-Mode Controller for Universal Off-Line Supplies Featuring Standby and Short Circuit Protection, AC-DC, 40kHz, SOIC-8
pins: 1 ADJ, 2 FB, 3 CS, 4 GND, 5 DRV, 6 VCC, 7 NC, 8 HV

## NCP1203D60
designator *  value NCP1203D60  Reference: U
PWM Current-Mode Controller for Universal Off-Line Supplies Featuring Standby and Short Circuit Protection, AC-DC, 60kHz, SOIC-8; ki_keywords: SMPS Controller AC-DC; ki_fp_filters: SOIC*3.9x4.9mm*P1.27mm*; Footprint: Package_SO:SOIC-8_3.9x4.9mm_P1.27mm; Datasheet: http://www.onsemi.com/pub_link/Collateral/NCP1203-D.PDF; Description_: PWM Current-Mode Controller for Universal Off-Line Supplies Featuring Standby and Short Circuit Protection, AC-DC, 60kHz, SOIC-8
pins: 1 ADJ, 2 FB, 3 CS, 4 GND, 5 DRV, 6 VCC, 7 NC, 8 HV

## NCP1203D100
designator *  value NCP1203D100  Reference: U
PWM Current-Mode Controller for Universal Off-Line Supplies Featuring Standby and Short Circuit Protection, AC-DC, 100kHz, SOIC-8; ki_keywords: SMPS Controller AC-DC; ki_fp_filters: SOIC*3.9x4.9mm*P1.27mm*; Footprint: Package_SO:SOIC-8_3.9x4.9mm_P1.27mm; Datasheet: http://www.onsemi.com/pub_link/Collateral/NCP1203-D.PDF; Description_: PWM Current-Mode Controller for Universal Off-Line Supplies Featuring Standby and Short Circuit Protection, AC-DC, 100kHz, SOIC-8
pins: 1 ADJ, 2 FB, 3 CS, 4 GND, 5 DRV, 6 VCC, 7 NC, 8 HV

## NCP1203P40
designator *  value NCP1203P40  Reference: U
PWM Current-Mode Controller for Universal Off-Line Supplies Featuring Standby and Short Circuit Protection, AC-DC, 40kHz, PDIP-8; ki_keywords: SMPS Controller AC-DC; ki_fp_filters: DIP*W7.62mm*; Footprint: Package_DIP:DIP-8_W7.62mm; Datasheet: http://www.onsemi.com/pub_link/Collateral/NCP1203-D.PDF; Description_: PWM Current-Mode Controller for Universal Off-Line Supplies Featuring Standby and Short Circuit Protection, AC-DC, 40kHz, PDIP-8
pins: 1 ADJ, 2 FB, 3 CS, 4 GND, 5 DRV, 6 VCC, 7 NC, 8 HV

## NCP1203P60
designator *  value NCP1203P60  Reference: U
PWM Current-Mode Controller for Universal Off-Line Supplies Featuring Standby and Short Circuit Protection, AC-DC, 60kHz, PDIP-8; ki_keywords: SMPS Controller AC-DC; ki_fp_filters: DIP*W7.62mm*; Footprint: Package_DIP:DIP-8_W7.62mm; Datasheet: http://www.onsemi.com/pub_link/Collateral/NCP1203-D.PDF; Description_: PWM Current-Mode Controller for Universal Off-Line Supplies Featuring Standby and Short Circuit Protection, AC-DC, 60kHz, PDIP-8
pins: 1 ADJ, 2 FB, 3 CS, 4 GND, 5 DRV, 6 VCC, 7 NC, 8 HV

## NCP1203P100
designator *  value NCP1203P100  Reference: U
PWM Current-Mode Controller for Universal Off-Line Supplies Featuring Standby and Short Circuit Protection, AC-DC, 100kHz, PDIP-8; ki_keywords: SMPS Controller AC-DC; ki_fp_filters: DIP*W7.62mm*; Footprint: Package_DIP:DIP-8_W7.62mm; Datasheet: http://www.onsemi.com/pub_link/Collateral/NCP1203-D.PDF; Description_: PWM Current-Mode Controller for Universal Off-Line Supplies Featuring Standby and Short Circuit Protection, AC-DC, 100kHz, PDIP-8
pins: 1 ADJ, 2 FB, 3 CS, 4 GND, 5 DRV, 6 VCC, 7 NC, 8 HV

## NCP1207A
designator *  value NCP1207A  Reference: U
PWM Current-Mode Controller for Free Running Quasi-Resonant Operation, AC-DC, 8us min Toff, PDIP-8/SOIC-8; ki_keywords: SMPS Controller AC-DC; ki_fp_filters: SOIC*3.9x4.9mm*P1.27mm* DIP*W7.62mm*; Datasheet: http://www.onsemi.com/pub/Collateral/NCP1207B.PDF; Description_: PWM Current-Mode Controller for Free Running Quasi-Resonant Operation, AC-DC, 8us min Toff, PDIP-8/SOIC-8
pins: 1 DMG, 2 FB, 3 CS, 4 GND, 5 DRV, 6 VCC, 7 NC, 8 HV

## NCP1207B
designator *  value NCP1207B  Reference: U
PWM Current-Mode Controller for Free Running Quasi-Resonant Operation, AC-DC, 4.5us min Toff, SOIC-7; ki_keywords: SMPS Controller AC-DC; ki_fp_filters: SOIC*N7*3.9x4.9mm*P1.27mm*; Footprint: Package_SO:SOIC-8-N7_3.9x4.9mm_P1.27mm; Datasheet: http://www.onsemi.com/pub/Collateral/NCP1207B.PDF; Description_: PWM Current-Mode Controller for Free Running Quasi-Resonant Operation, AC-DC, 4.5us min Toff, SOIC-7
pins: 1 DMG, 2 FB, 3 CS, 4 GND, 5 DRV, 6 VCC, 8 HV

## NCP1217AD65
designator *  value NCP1217AD65  Reference: U
Enhanced PWM Current-Mode Controller for High-Power Universal Off-Line Supplies, AC-DC, 65kHz, 1ms Soft Start, SOIC-8; ki_keywords: SMPS Controller AC-DC; ki_fp_filters: SOIC*3.9x4.9mm*P1.27mm*; Footprint: Package_SO:SOIC-8_3.9x4.9mm_P1.27mm; Datasheet: http://www.onsemi.com/pub_link/Collateral/NCP1217-D.PDF; Description_: Enhanced PWM Current-Mode Controller for High-Power Universal Off-Line Supplies, AC-DC, 65kHz, 1ms Soft Start, SOIC-8
pins: 1 ADJ, 2 FB, 3 CS, 4 GND, 5 DRV, 6 VCC, 7 NC, 8 HV

## NCP1217AD100
designator *  value NCP1217AD100  Reference: U
Enhanced PWM Current-Mode Controller for High-Power Universal Off-Line Supplies, AC-DC, 100kHz, 1ms Soft Start, SOIC-8; ki_keywords: SMPS Controller AC-DC; ki_fp_filters: SOIC*3.9x4.9mm*P1.27mm*; Footprint: Package_SO:SOIC-8_3.9x4.9mm_P1.27mm; Datasheet: http://www.onsemi.com/pub_link/Collateral/NCP1217-D.PDF; Description_: Enhanced PWM Current-Mode Controller for High-Power Universal Off-Line Supplies, AC-DC, 100kHz, 1ms Soft Start, SOIC-8
pins: 1 ADJ, 2 FB, 3 CS, 4 GND, 5 DRV, 6 VCC, 7 NC, 8 HV

## NCP1217AD133
designator *  value NCP1217AD133  Reference: U
Enhanced PWM Current-Mode Controller for High-Power Universal Off-Line Supplies, AC-DC, 133kHz, 1ms Soft Start, SOIC-8; ki_keywords: SMPS Controller AC-DC; ki_fp_filters: SOIC*3.9x4.9mm*P1.27mm*; Footprint: Package_SO:SOIC-8_3.9x4.9mm_P1.27mm; Datasheet: http://www.onsemi.com/pub_link/Collateral/NCP1217-D.PDF; Description_: Enhanced PWM Current-Mode Controller for High-Power Universal Off-Line Supplies, AC-DC, 133kHz, 1ms Soft Start, SOIC-8
pins: 1 ADJ, 2 FB, 3 CS, 4 GND, 5 DRV, 6 VCC, 7 NC, 8 HV

## NCP1217AP65
designator *  value NCP1217AP65  Reference: U
Enhanced PWM Current-Mode Controller for High-Power Universal Off-Line Supplies, AC-DC, 65kHz, 1ms Soft Start, PDIP-8; ki_keywords: SMPS Controller AC-DC; ki_fp_filters: DIP*W7.62mm*; Footprint: Package_DIP:DIP-8_W7.62mm; Datasheet: http://www.onsemi.com/pub_link/Collateral/NCP1217-D.PDF; Description_: Enhanced PWM Current-Mode Controller for High-Power Universal Off-Line Supplies, AC-DC, 65kHz, 1ms Soft Start, PDIP-8
pins: 1 ADJ, 2 FB, 3 CS, 4 GND, 5 DRV, 6 VCC, 7 NC, 8 HV

## NCP1217AP100
designator *  value NCP1217AP100  Reference: U
Enhanced PWM Current-Mode Controller for High-Power Universal Off-Line Supplies, AC-DC, 100kHz, 1ms Soft Start, PDIP-8; ki_keywords: SMPS Controller AC-DC; ki_fp_filters: DIP*W7.62mm*; Footprint: Package_DIP:DIP-8_W7.62mm; Datasheet: http://www.onsemi.com/pub_link/Collateral/NCP1217-D.PDF; Description_: Enhanced PWM Current-Mode Controller for High-Power Universal Off-Line Supplies, AC-DC, 100kHz, 1ms Soft Start, PDIP-8
pins: 1 ADJ, 2 FB, 3 CS, 4 GND, 5 DRV, 6 VCC, 7 NC, 8 HV

## NCP1217AP133
designator *  value NCP1217AP133  Reference: U
Enhanced PWM Current-Mode Controller for High-Power Universal Off-Line Supplies, AC-DC, 133kHz, 1ms Soft Start, PDIP-8; ki_keywords: SMPS Controller AC-DC; ki_fp_filters: DIP*W7.62mm*; Footprint: Package_DIP:DIP-8_W7.62mm; Datasheet: http://www.onsemi.com/pub_link/Collateral/NCP1217-D.PDF; Description_: Enhanced PWM Current-Mode Controller for High-Power Universal Off-Line Supplies, AC-DC, 133kHz, 1ms Soft Start, PDIP-8
pins: 1 ADJ, 2 FB, 3 CS, 4 GND, 5 DRV, 6 VCC, 7 NC, 8 HV

## NCP1217D65
designator *  value NCP1217D65  Reference: U
Enhanced PWM Current-Mode Controller for High-Power Universal Off-Line Supplies, AC-DC, 65kHz, SOIC-8; ki_keywords: SMPS Controller AC-DC; ki_fp_filters: SOIC*3.9x4.9mm*P1.27mm*; Footprint: Package_SO:SOIC-8_3.9x4.9mm_P1.27mm; Datasheet: http://www.onsemi.com/pub_link/Collateral/NCP1217-D.PDF; Description_: Enhanced PWM Current-Mode Controller for High-Power Universal Off-Line Supplies, AC-DC, 65kHz, SOIC-8
pins: 1 ADJ, 2 FB, 3 CS, 4 GND, 5 DRV, 6 VCC, 7 NC, 8 HV

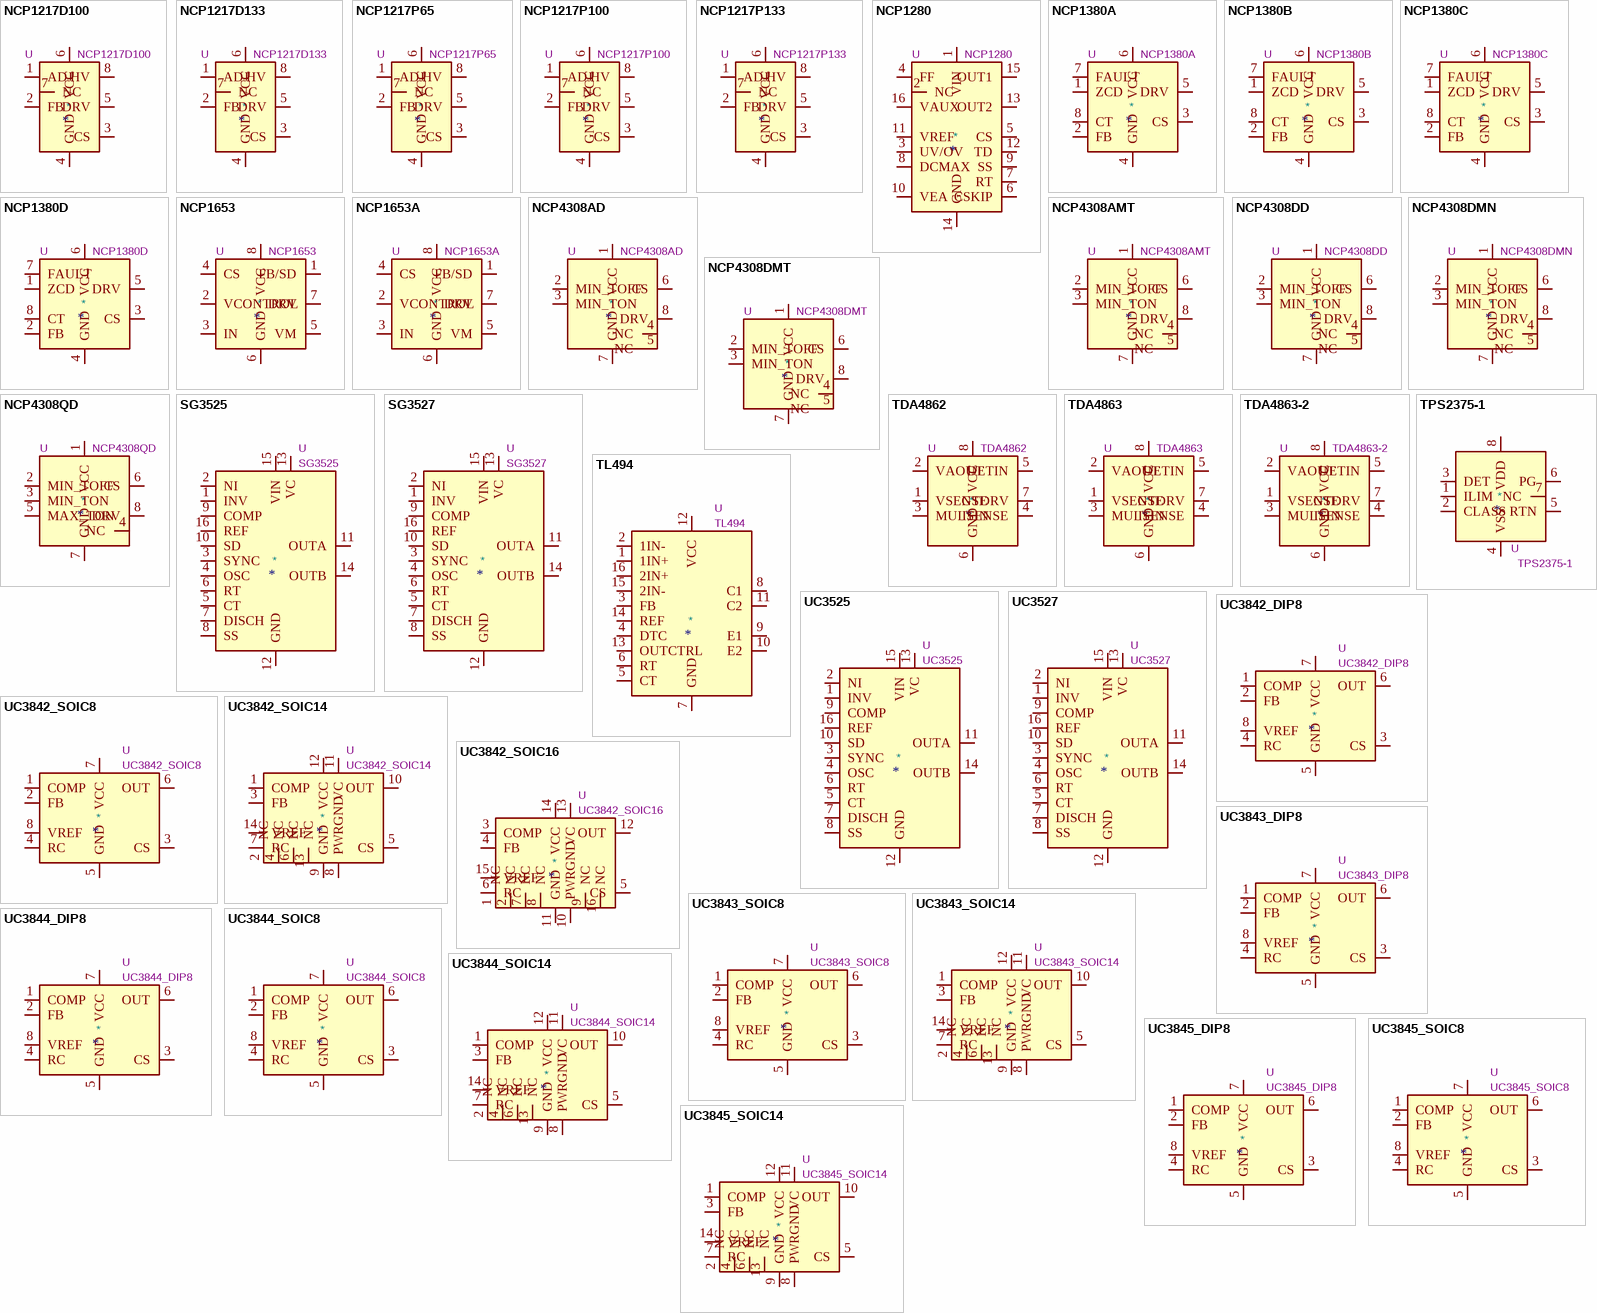
[diagram p2: symbols NCP1217D100 to UC3845_SOIC14]

## NCP1217D100
designator *  value NCP1217D100  Reference: U
Enhanced PWM Current-Mode Controller for High-Power Universal Off-Line Supplies, AC-DC, 100kHz, SOIC-8; ki_keywords: SMPS Controller AC-DC; ki_fp_filters: SOIC*3.9x4.9mm*P1.27mm*; Footprint: Package_SO:SOIC-8_3.9x4.9mm_P1.27mm; Datasheet: http://www.onsemi.com/pub_link/Collateral/NCP1217-D.PDF; Description_: Enhanced PWM Current-Mode Controller for High-Power Universal Off-Line Supplies, AC-DC, 100kHz, SOIC-8
pins: 1 ADJ, 2 FB, 3 CS, 4 GND, 5 DRV, 6 VCC, 7 NC, 8 HV

## NCP1217D133
designator *  value NCP1217D133  Reference: U
Enhanced PWM Current-Mode Controller for High-Power Universal Off-Line Supplies, AC-DC, 133kHz, SOIC-8; ki_keywords: SMPS Controller AC-DC; ki_fp_filters: SOIC*3.9x4.9mm*P1.27mm*; Footprint: Package_SO:SOIC-8_3.9x4.9mm_P1.27mm; Datasheet: http://www.onsemi.com/pub_link/Collateral/NCP1217-D.PDF; Description_: Enhanced PWM Current-Mode Controller for High-Power Universal Off-Line Supplies, AC-DC, 133kHz, SOIC-8
pins: 1 ADJ, 2 FB, 3 CS, 4 GND, 5 DRV, 6 VCC, 7 NC, 8 HV

## NCP1217P65
designator *  value NCP1217P65  Reference: U
Enhanced PWM Current-Mode Controller for High-Power Universal Off-Line Supplies, AC-DC, 65kHz, PDIP-8; ki_keywords: SMPS Controller AC-DC; ki_fp_filters: DIP*W7.62mm*; Footprint: Package_DIP:DIP-8_W7.62mm; Datasheet: http://www.onsemi.com/pub_link/Collateral/NCP1217-D.PDF; Description_: Enhanced PWM Current-Mode Controller for High-Power Universal Off-Line Supplies, AC-DC, 65kHz, PDIP-8
pins: 1 ADJ, 2 FB, 3 CS, 4 GND, 5 DRV, 6 VCC, 7 NC, 8 HV

## NCP1217P100
designator *  value NCP1217P100  Reference: U
Enhanced PWM Current-Mode Controller for High-Power Universal Off-Line Supplies, AC-DC, 100kHz, PDIP-8; ki_keywords: SMPS Controller AC-DC; ki_fp_filters: DIP*W7.62mm*; Footprint: Package_DIP:DIP-8_W7.62mm; Datasheet: http://www.onsemi.com/pub_link/Collateral/NCP1217-D.PDF; Description_: Enhanced PWM Current-Mode Controller for High-Power Universal Off-Line Supplies, AC-DC, 100kHz, PDIP-8
pins: 1 ADJ, 2 FB, 3 CS, 4 GND, 5 DRV, 6 VCC, 7 NC, 8 HV

## NCP1217P133
designator *  value NCP1217P133  Reference: U
Enhanced PWM Current-Mode Controller for High-Power Universal Off-Line Supplies, AC-DC, 133kHz, PDIP-8; ki_keywords: SMPS Controller AC-DC; ki_fp_filters: DIP*W7.62mm*; Footprint: Package_DIP:DIP-8_W7.62mm; Datasheet: http://www.onsemi.com/pub_link/Collateral/NCP1217-D.PDF; Description_: Enhanced PWM Current-Mode Controller for High-Power Universal Off-Line Supplies, AC-DC, 133kHz, PDIP-8
pins: 1 ADJ, 2 FB, 3 CS, 4 GND, 5 DRV, 6 VCC, 7 NC, 8 HV

## NCP1280
designator *  value NCP1280  Reference: U
Active Clamp Voltage Mode PWM Controller for Off-Line Applications, SOIC-16; ki_keywords: SMPS Controller AC-DC; ki_fp_filters: SOIC*3.9x9.9mm*P1.27mm*; Footprint: Package_SO:SOIC-16_3.9x9.9mm_P1.27mm; Datasheet: https://www.onsemi.com/pub/Collateral/NCP1280-D.PDF; Description_: Active Clamp Voltage Mode PWM Controller for Off-Line Applications, SOIC-16
pins: 1 VIN, 2 NC, 3 UV/OV, 4 FF, 5 CS, 6 CSKIP, 7 RT, 8 DCMAX, 9 SS, 10 VEA, 11 VREF, 12 TD, 13 OUT2, 14 GND, 15 OUT1, 16 VAUX

## NCP1380A
designator *  value NCP1380A  Reference: U
Quasi-Resonant Current-Mode Controller for Off-Line Supplies, OVP/OTP, Latched OCP, SOIC-8; ki_keywords: SMPS Controller AC-DC; ki_fp_filters: SOIC*3.9x4.9mm*P1.27mm*; Footprint: Package_SO:SOIC-8_3.9x4.9mm_P1.27mm; Datasheet: https://www.onsemi.com/pub/Collateral/NCP1380-D.PDF; Description_: Quasi-Resonant Current-Mode Controller for Off-Line Supplies, OVP/OTP, Latched OCP, SOIC-8
pins: 1 ZCD, 2 FB, 3 CS, 4 GND, 5 DRV, 6 VCC, 7 FAULT, 8 CT

## NCP1380B
designator *  value NCP1380B  Reference: U
Quasi-Resonant Current-Mode Controller for Off-Line Supplies, OVP/OTP, Auto-Recovery OCP, SOIC-8; ki_keywords: SMPS Controller AC-DC; ki_fp_filters: SOIC*3.9x4.9mm*P1.27mm*; Footprint: Package_SO:SOIC-8_3.9x4.9mm_P1.27mm; Datasheet: https://www.onsemi.com/pub/Collateral/NCP1380-D.PDF; Description_: Quasi-Resonant Current-Mode Controller for Off-Line Supplies, OVP/OTP, Auto-Recovery OCP, SOIC-8
pins: 1 ZCD, 2 FB, 3 CS, 4 GND, 5 DRV, 6 VCC, 7 FAULT, 8 CT

## NCP1380C
designator *  value NCP1380C  Reference: U
Quasi-Resonant Current-Mode Controller for Off-Line Supplies, UVP/OVP, Latched OCP, SOIC-8; ki_keywords: SMPS Controller AC-DC; ki_fp_filters: SOIC*3.9x4.9mm*P1.27mm*; Footprint: Package_SO:SOIC-8_3.9x4.9mm_P1.27mm; Datasheet: https://www.onsemi.com/pub/Collateral/NCP1380-D.PDF; Description_: Quasi-Resonant Current-Mode Controller for Off-Line Supplies, UVP/OVP, Latched OCP, SOIC-8
pins: 1 ZCD, 2 FB, 3 CS, 4 GND, 5 DRV, 6 VCC, 7 FAULT, 8 CT

## NCP1380D
designator *  value NCP1380D  Reference: U
Quasi-Resonant Current-Mode Controller for Off-Line Supplies, UVP/OVP, Auto-Recovery OCP, SOIC-8; ki_keywords: SMPS Controller AC-DC; ki_fp_filters: SOIC*3.9x4.9mm*P1.27mm*; Footprint: Package_SO:SOIC-8_3.9x4.9mm_P1.27mm; Datasheet: https://www.onsemi.com/pub/Collateral/NCP1380-D.PDF; Description_: Quasi-Resonant Current-Mode Controller for Off-Line Supplies, UVP/OVP, Auto-Recovery OCP, SOIC-8
pins: 1 ZCD, 2 FB, 3 CS, 4 GND, 5 DRV, 6 VCC, 7 FAULT, 8 CT

## NCP1653
designator *  value NCP1653  Reference: U
Compact, Fixed-Frequency, Continuous Conduction Mode PFC Controller, 100kHz, DIP-8/SOIC-8; ki_keywords: PFC SMPS Controller; ki_fp_filters: SOIC*3.9x4.9mm*P1.27mm* DIP*W7.62mm*; Datasheet: https://www.onsemi.com/pub/Collateral/NCP1653-D.PDF; Description_: Compact, Fixed-Frequency, Continuous Conduction Mode PFC Controller, 100kHz, DIP-8/SOIC-8
pins: 1 FB/SD, 2 VCONTROL, 3 IN, 4 CS, 5 VM, 6 GND, 7 DRV, 8 VCC

## NCP1653A
designator *  value NCP1653A  Reference: U
Compact, Fixed-Frequency, Continuous Conduction Mode PFC Controller, 67kHz, DIP-8/SOIC-8; ki_keywords: PFC SMPS Controller; ki_fp_filters: SOIC*3.9x4.9mm*P1.27mm* DIP*W7.62mm*; Datasheet: https://www.onsemi.com/pub/Collateral/NCP1653-D.PDF; Description_: Compact, Fixed-Frequency, Continuous Conduction Mode PFC Controller, 67kHz, DIP-8/SOIC-8
pins: 1 FB/SD, 2 VCONTROL, 3 IN, 4 CS, 5 VM, 6 GND, 7 DRV, 8 VCC

## NCP4308AD
designator *  value NCP4308AD  Reference: U
Synchronous Rectifier Controller, 4A/8A, 4V UVLO, GaN Capable, SOIC-8; ki_fp_filters: SOIC*3.9x4.9mm*P1.27mm*; Footprint: Package_SO:SOIC-8_3.9x4.9mm_P1.27mm; Datasheet: http://www.onsemi.com/pub/Collateral/NCP4308-D.PDF; Description_: Synchronous Rectifier Controller, 4A/8A, 4V UVLO, GaN Capable, SOIC-8; ki_keywords: synchronous rectifier controller
pins: 1 VCC, 2 MIN_TOFF, 3 MIN_TON, 4 NC, 5 NC, 6 CS, 7 GND, 8 DRV

## NCP4308AMT
designator *  value NCP4308AMT  Reference: U
Synchronous Rectifier Controller, 4A/8A, 4V UVLO, GaN Capable, WDFN-8; ki_fp_filters: OnSemi*DFN*2x2mm*P0.5mm*; Footprint: Package_DFN_QFN:OnSemi_DFN-8_2x2mm_P0.5mm; Datasheet: http://www.onsemi.com/pub/Collateral/NCP4308-D.PDF; Description_: Synchronous Rectifier Controller, 4A/8A, 4V UVLO, GaN Capable, WDFN-8; ki_keywords: synchronous rectifier controller
pins: 1 VCC, 2 MIN_TOFF, 3 MIN_TON, 4 NC, 5 NC, 6 CS, 7 GND, 8 DRV

## NCP4308DD
designator *  value NCP4308DD  Reference: U
Synchronous Rectifier Controller, 4A/8A, 4V UVLO, SOIC-8; ki_fp_filters: SOIC*3.9x4.9mm*P1.27mm*; Footprint: Package_SO:SOIC-8_3.9x4.9mm_P1.27mm; Datasheet: http://www.onsemi.com/pub/Collateral/NCP4308-D.PDF; Description_: Synchronous Rectifier Controller, 4A/8A, 4V UVLO, SOIC-8; ki_keywords: synchronous rectifier controller
pins: 1 VCC, 2 MIN_TOFF, 3 MIN_TON, 4 NC, 5 NC, 6 CS, 7 GND, 8 DRV

## NCP4308DMN
designator *  value NCP4308DMN  Reference: U
Synchronous Rectifier Controller, 4A/8A, 4V UVLO, DFN-8; ki_fp_filters: DFN*1EP*4x4mm*P0.8mm*EP2.39x2.21mm*; Footprint: Package_DFN_QFN:DFN-8-1EP_4x4mm_P0.8mm_EP2.39x2.21mm; Datasheet: http://www.onsemi.com/pub/Collateral/NCP4308-D.PDF; Description_: Synchronous Rectifier Controller, 4A/8A, 4V UVLO, DFN-8; ki_keywords: synchronous rectifier controller
pins: 1 VCC, 2 MIN_TOFF, 3 MIN_TON, 4 NC, 5 NC, 6 CS, 7 GND, 8 DRV

## NCP4308DMT
designator *  value NCP4308DMT  Reference: U
Synchronous Rectifier Controller, 4A/8A, 4V UVLO, WDFN-8; ki_fp_filters: OnSemi*DFN*2x2mm*P0.5mm*; Footprint: Package_DFN_QFN:OnSemi_DFN-8_2x2mm_P0.5mm; Datasheet: http://www.onsemi.com/pub/Collateral/NCP4308-D.PDF; Description_: Synchronous Rectifier Controller, 4A/8A, 4V UVLO, WDFN-8; ki_keywords: synchronous rectifier controller
pins: 1 VCC, 2 MIN_TOFF, 3 MIN_TON, 4 NC, 5 NC, 6 CS, 7 GND, 8 DRV

## NCP4308QD
designator *  value NCP4308QD  Reference: U
Synchronous Rectifier Controller, 4A/8A, 4V UVLO, Max TON, SOIC-8; ki_fp_filters: SOIC*3.9x4.9mm*P1.27mm*; Footprint: Package_SO:SOIC-8_3.9x4.9mm_P1.27mm; Datasheet: http://www.onsemi.com/pub/Collateral/NCP4308-D.PDF; Description_: Synchronous Rectifier Controller, 4A/8A, 4V UVLO, Max TON, SOIC-8; ki_keywords: synchronous rectifier controller
pins: 1 VCC, 2 MIN_TOFF, 3 MIN_TON, 4 NC, 5 MAX_TON, 6 CS, 7 GND, 8 DRV